# EAGLE library part ACT4065ASH-T (library axios_components)
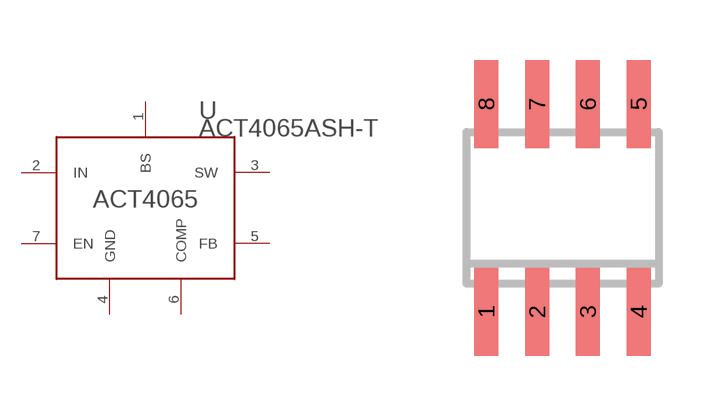
[diagram p6: symbol with the pads of SO8; footprint SO8]

Designator prefix U

## ACT4065ASH-T  [SO8]
1  BS
2  IN
3  SW
4  GND
5  FB
6  COMP
7  EN

## Footprint SO8 (pad centres in mm)
SMALL OUTLINE INTEGRATED CIRCUIT SOP-8L Source: http://www.diodes.com/datasheets/ds31262.pdf
smd 0.6 x 2.2: 1 -1.905,-2.6; 2 -0.635,-2.6; 3 0.635,-2.6; 4 1.905,-2.6; 5 1.905,2.6; 6 0.635,2.6; 7 -0.635,2.6; 8 -1.905,2.6